# Altium footprint library MOLEX_39281163.PcbLib: 1 footprints
Each footprint in its own frame and in the unit in brackets; x right, y up, seen from the top. Pads: shape width x height; smd on the part's side, far side on the other; paste and mask are expansions set on the pad; w line width, h text height; cw(c..) or ccw(c..) is an arc to the next point about the centre after c.
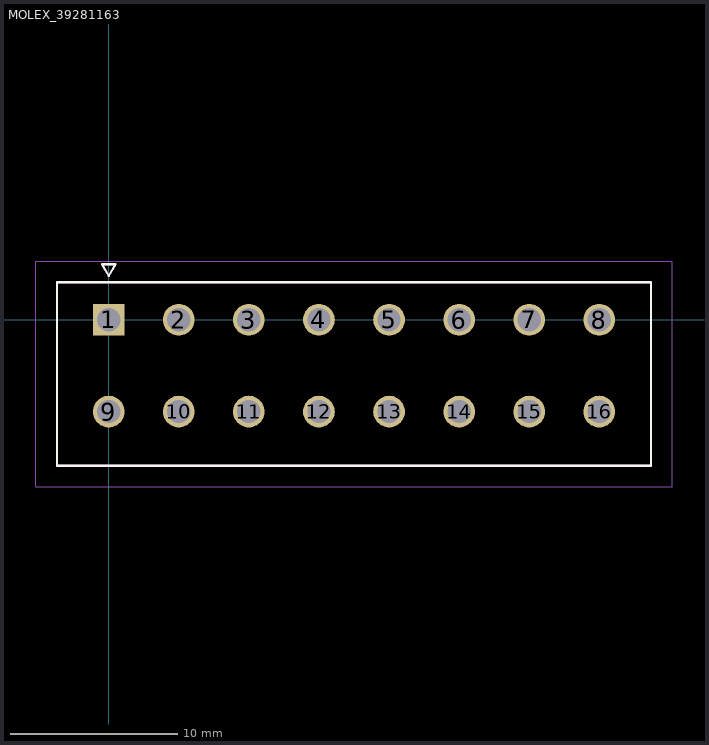
[diagram p0: the footprint, top view; thin cyan lines are the x and y axes]

## MOLEX_39281163 [mm]
height 12.8
pads (16):
  rect 1.9x1.9 / inner round 1.9 / far side rect 1.9x1.9 hole 1.4 mask+0.076: 1(0,0)
  round 1.9 hole 1.4 mask+0.076: 2(4.2,0) 3(8.4,0) 4(12.6,0) 5(16.8,0) 6(21,0) 7(25.2,0) 8(29.4,0) 9(0,-5.5) 10(4.2,-5.5) 11(8.4,-5.5) 12(12.6,-5.5) 13(16.8,-5.5) 14(21,-5.5) 15(25.2,-5.5) 16(29.4,-5.5)
Top Overlay:
  lines w0.127: -3.1,-8.75 -3.1,2.25 32.5,2.25 32.5,-8.75 -3.1,-8.75 ; -0.4,3.327 0.4,3.327 0,2.627 -0.4,3.327
Mechanical 13:
  lines w0.127: -3.1,-8.75 -3.1,2.25 32.5,2.25 32.5,-8.75 -3.1,-8.75 ; -0.4,3.327 0.4,3.327 0,2.627 -0.4,3.327
Mechanical 15:
  lines w0.05: -4.37,-10.02 -4.37,3.52 33.77,3.52 33.77,-10.02 -4.37,-10.02
3D body "039281163.stp": height 12.8, standoff -3.5, extent -3.065,-8.994 32.532,2.006